# Altium footprint library PCB - DIODES - CRD.PCBLIB: 1 footprints
Each footprint in its own frame and in the unit in brackets; x right, y up, seen from the top. Pads: shape width x height; smd on the part's side, far side on the other; paste and mask are expansions set on the pad; w line width, h text height; cw(c..) or ccw(c..) is an arc to the next point about the centre after c.
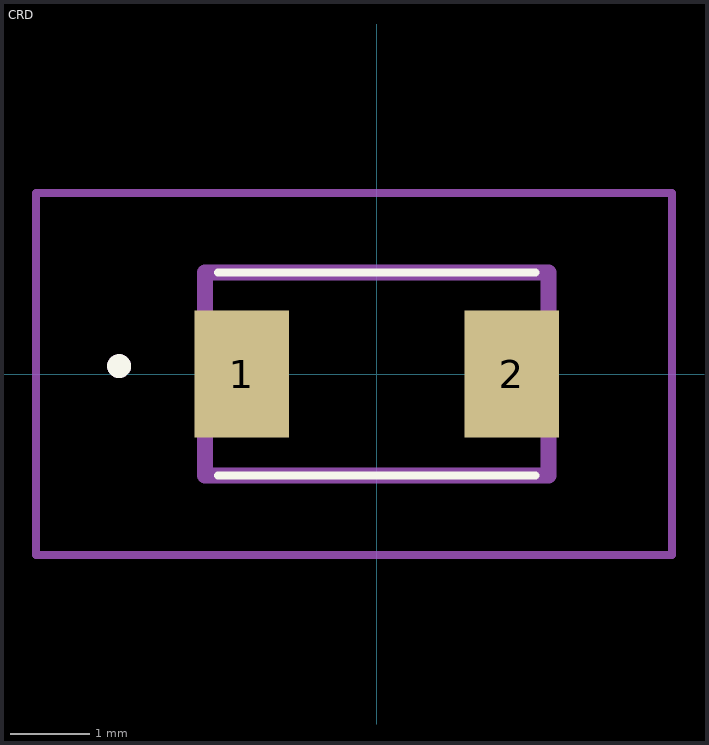
[diagram p0: the footprint, top view; thin cyan lines are the x and y axes]

## CRD [mil]
pads (2):
  rect 47x63 smd: 1(-67,0) 2(67,0)
Top Overlay:
  lines w3.94: -78.74,-50.39 78.74,-50.39 -78.74,-50.39 ; -78.74,50.39 78.74,50.39 -78.74,50.39
  lines w7.87: -129.92,3.94 ccw(c-127.95,3.94) -125.98,3.94 ; -129.92,3.94 cw(c-127.95,3.94) -125.98,3.94 ; -129.92,3.94 ccw(c-127.95,3.94) -125.98,3.94
Top Assembly:
  lines w7.87: -129.92,3.94 ccw(c-127.95,3.94) -125.98,3.94 ; -129.92,3.94 cw(c-127.95,3.94) -125.98,3.94 ; -129.92,3.94 ccw(c-127.95,3.94) -125.98,3.94 ; -85.24,-50.39 -85.24,50.39 85.24,50.39 85.24,-50.39 -85.24,-50.39
Top Courtyard:
  lines w3.94: -169.29,-89.76 -169.29,89.76 146.65,89.76 146.65,-89.76 -169.29,-89.76
Top Designator:
  text ".Designator" at 165,-40 h39.37
Top Value (Mech13):
  text ".Comment" at 165,-80 h39.37
3D body "SMAJ22CA_R3.stp": height 102.36, standoff 0, extent -101.3,-50.39 101.3,50.4